# EAGLE library part 2-5499206-6 (library 2-5499206-6)
A/L UNIV HDR 26P VERT LG LAT BLUE Check prices <https://pricing.snapeda.com/parts/2-5499206-6/TE%20Connectivity/view-part?ref=eda>
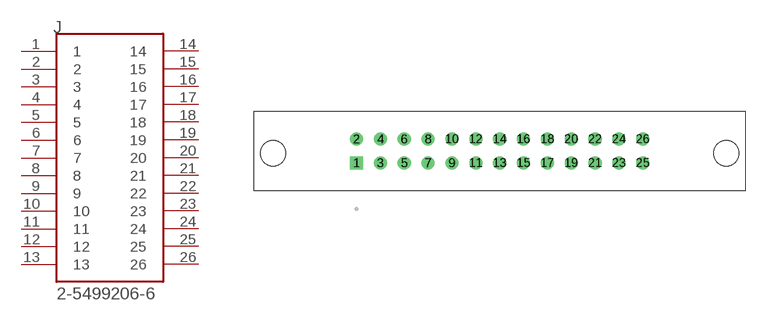
[diagram p0: symbol with the pads of TE_2-5499206-6; footprint TE_2-5499206-6]

Designator prefix J

## 2-5499206-6 (AVAILABILITY: In Stock; CENTERLINE_PITCH: 2.54 mm[.1 in]; COMMENT: 2-5499206-6; DESCRIPTION: Conn Ejector Header HDR 26 POS 2.54mm Solder ST Thru-Hole; EU_ROHS_COMPLIANCE: Compliant; MF: TE Connectivity; MP: 2-5499206-6; NUMBER_OF_POSITIONS: 26; PACKAGE: None; PRICE: None; PRODUCT_TYPE: Connector; PURCHASE-URL: https://pricing.snapeda.com/search/part/2-5499206-6/?ref=eda)  [TE_2-5499206-6]
1  1  pas
2  2  pas
3  3  pas
4  4  pas
5  5  pas
6  6  pas
7  7  pas
8  8  pas
9  9  pas
10  10  pas
11  11  pas
12  12  pas
13  13  pas
14  14  pas
15  15  pas
16  16  pas
17  17  pas
18  18  pas
19  19  pas
20  20  pas
21  21  pas
22  22  pas
23  23  pas
24  24  pas
25  25  pas
26  26  pas

## Footprint TE_2-5499206-6 (pad centres in mm)
drill 0.89 square: 1 -15.24,-1.27
drill 0.89: 2 -15.24,1.27; 3 -12.7,-1.27; 4 -12.7,1.27; 5 -10.16,-1.27; 6 -10.16,1.27; 7 -7.62,-1.27; 8 -7.62,1.27; 9 -5.08,-1.27; 10 -5.08,1.27; 11 -2.54,-1.27; 12 -2.54,1.27; 13 0,-1.27; 14 0,1.27; 15 2.54,-1.27; 16 2.54,1.27; 17 5.08,-1.27; 18 5.08,1.27; 19 7.62,-1.27; 20 7.62,1.27; 21 10.16,-1.27; 22 10.16,1.27; 23 12.7,-1.27; 24 12.7,1.27; 25 15.24,-1.27; 26 15.24,1.27
hole 2.69 at -24.13,-0.25
hole 2.69 at 24.13,-0.25